# EAGLE library part TC7662B (library parts2011)
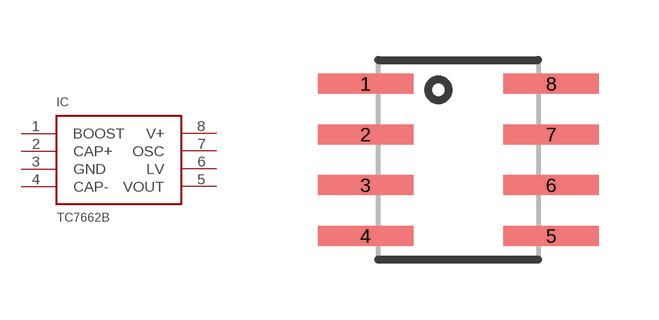
[diagram p5: symbol with the pads of SOIC-8; footprint SOIC-8]

Designator prefix IC

## TC7662B-SOIC-8  [SOIC-8]
1  BOOST  in
2  CAP+  pas
3  GND  pwr
4  CAP-  pas
5  VOUT  pwr
6  LV  in
7  OSC  pas
8  V+  pwr

## Footprint SOIC-8 (pad centres in mm)
smd 2.388 x 0.5: 1 -2.324,1.905; 2 -2.324,0.635; 3 -2.324,-0.635; 4 -2.324,-1.905; 5 2.324,-1.905; 6 2.324,-0.635; 7 2.324,0.635; 8 2.324,1.905